# Altium integrated library k7sch3.IntLib: 7 symbols
Pins are listed as number, name and electrical type; pins without a type are passive.

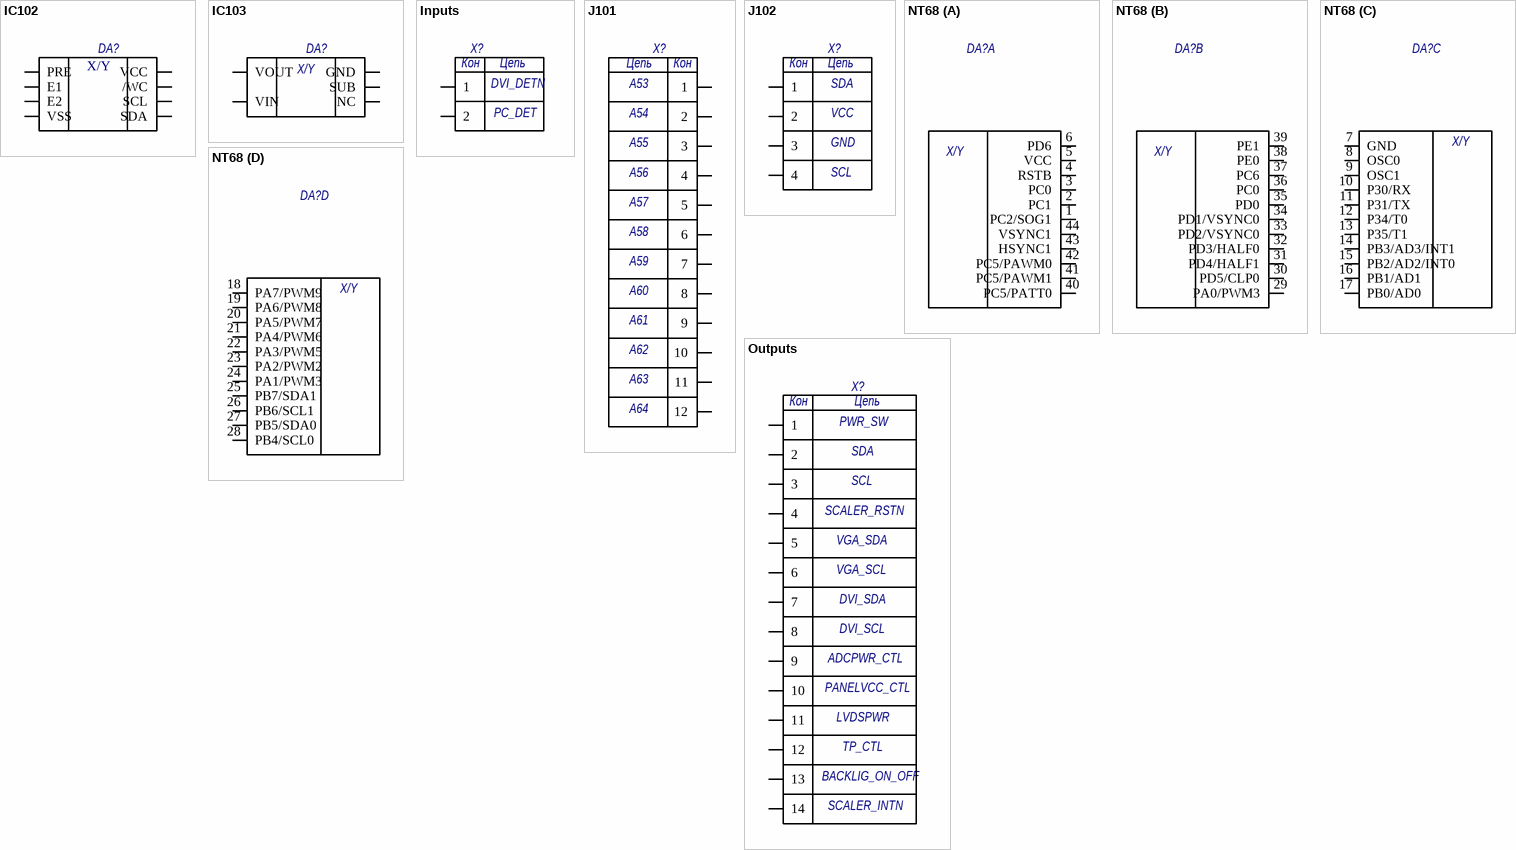
[diagram p0: symbols IC102 to Outputs]

## IC102
designator DA?  (value not drawn)
footprint IC102
pins: 1 PRE, 2 E1, 3 E2, 4 VSS, 5 VCC, 6 /WC, 7 SCL, 8 SDA
text: X/Y

## IC103
designator DA?  (value not drawn)
footprint IC103_2
pins: 1 GND, 2 SUB, 3 NC, 4 VOUT, 5 VIN
text: X/Y

## Inputs
designator X?  (value not drawn)
footprint Inputs
pins: 1, 2
text: Кон; Цепь; DVI_DETN; PC_DET

## J101
designator X?  (value not drawn)
footprint J101
pins: 1, 2, 3, 4, 5, 6, 7, 8, 9, 10, 11, 12
text: Цепь; Кон; A53; A54; A55; A56; A57; A58; A59; A60; A61; A62; A63; A64

## J102
designator X?  (value not drawn)
footprint J102
pins: 1, 2, 3, 4
text: Кон; Цепь; SDA; VCC; GND; SCL

## NT68
designator DA?  (value not drawn)
footprint NT68
part A pins: 1 PC2/SOG1, 2 PC1, 3 PC0, 4 RSTB, 5 VCC, 6 PD6, 40 PC5/PATT0, 41 PC5/PAWM1, 42 PC5/PAWM0, 43 HSYNC1, 44 VSYNC1
part B pins: 29 PA0/PWM3, 30 PD5/CLP0, 31 PD4/HALF1, 32 PD3/HALF0, 33 PD2/VSYNC0, 34 PD1/VSYNC0, 35 PD0, 36 PC0, 37 PC6, 38 PE0, 39 PE1
part C pins: 7 GND, 8 OSC0, 9 OSC1, 10 P30/RX, 11 P31/TX, 12 P34/T0, 13 P35/T1, 14 PB3/AD3/INT1, 15 PB2/AD2/INT0, 16 PB1/AD1, 17 PB0/AD0
part D pins: 18 PA7/PWM9, 19 PA6/PWM8, 20 PA5/PWM7, 21 PA4/PWM6, 22 PA3/PWM5, 23 PA2/PWM2, 24 PA1/PWM3, 25 PB7/SDA1, 26 PB6/SCL1, 27 PB5/SDA0, 28 PB4/SCL0
part A text: X/Y
part B text: X/Y
part C text: X/Y
part D text: X/Y

## Outputs
designator X?  (value not drawn)
footprint Outputs
pins: 1, 2, 3, 4, 5, 6, 7, 8, 9, 10, 11, 12, 13, 14
text: Кон; Цепь; PWR_SW; SDA; SCL; SCALER_RSTN; VGA_SDA; VGA_SCL; DVI_SDA; DVI_SCL; ADCPWR_CTL; PANELVCC_CTL; LVDSPWR; TP_CTL; BACKLIG_ON_OFF; SCALER_INTN